# EAGLE library part HPP845E031R4 (library Sensor)
SENSOR HUMID/TEMP 3V I2C 2% SMD
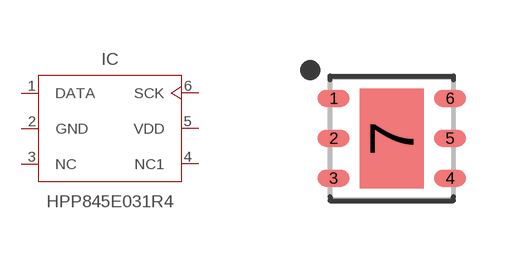
[diagram p5: symbol with the pads of SON100P300X300X100-7T160X250N; footprint SON100P300X300X100-7T160X250N]

Designator prefix IC

## HPP845E031R4 (CATEGORY: Sensor; MANUFACTURER: TE; MPN: HPP845E031R4; OPERATING_TEMP: -40 to 125 °C; PART_STATUS: Active; ROHS_COMPLIANT: RoHS3 Compliant; SUB-CATEGORY: Humidity; THERMALLOSS: 2.7 µW)  [SON100P300X300X100-7T160X250N]
1  DATA
2  GND  pwr
3  NC  pas
4  NC1  pas
5  VDD  pwr
6  SCK  in

## Footprint SON100P300X300X100-7T160X250N (pad centres in mm)
6-SON (DFN), 1.00 mm pitch, 3.00 X 3.00 X 1.00 mm body, 2.50 X 1.60 mm thermal pad 6-pin SON (DFN) package with 1.00 mm pitch with body size 3.00 X 3.00 X 1.00 mm and thermal pad size 2.50 X 1.60 mm
smd 0.806 x 0.42: 1 -1.456,1; 2 -1.456,0; 3 -1.456,-1; 4 1.456,-1; 5 1.456,0; 6 1.456,1
smd 1.6 x 2.5: 7 0,0